# Altium schematic symbol library LEDC1608X35N.SchLib: 1 symbol
Pins are listed as number, name and electrical type; pins without a type are passive.

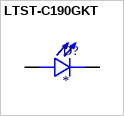
[diagram p0: symbol LTST-C190GKT]

## LTST-C190GKT
designator D?
Green 569nm LED Indication - Discrete 2.1V 0603 (1608 Metric); MF: Lite-On Inc.; MP: LTST-C190GKT; SnapEDA_Link: https://www.snapeda.com/parts/LTST-C190GKT/Lite-On+Inc./view-part/?ref=snap; Package: 0603 Lite-On; Value: *; Check_prices: https://www.snapeda.com/parts/LTST-C190GKT/Lite-On+Inc./view-part/?ref=eda
footprint LEDC1608X35N
pins: A, C